# Altium footprint library Flexiwatt27.PcbLib: 1 footprints
Each footprint in its own frame and in the unit in brackets; x right, y up, seen from the top. Pads: shape width x height; smd on the part's side, far side on the other; paste and mask are expansions set on the pad; w line width, h text height; cw(c..) or ccw(c..) is an arc to the next point about the centre after c.
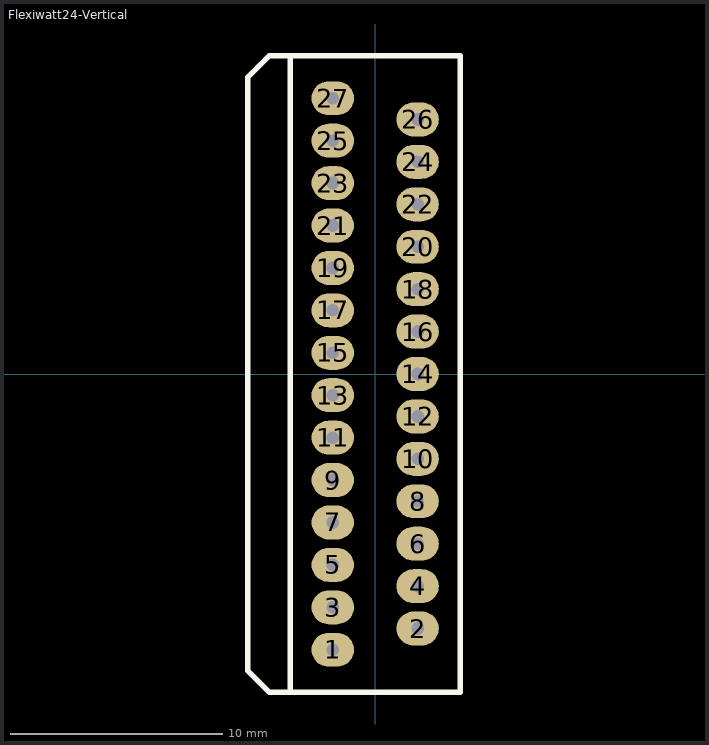
[diagram p0: the footprint, top view; thin cyan lines are the x and y axes]

## Flexiwatt24-Vertical [mm]
pads (27):
  oval 2x1.6 hole 0.6: 1(-2,-13) 2(2,-12) 3(-2,-11) 4(2,-10) 5(-2,-9) 6(2,-8) 7(-2,-7) 8(2,-6) 9(-2,-5) 10(2,-4) 11(-2,-3) 12(2,-2) 13(-2,-1) 14(2,0) 15(-2,1) 16(2,2) 17(-2,3) 18(2,4) 19(-2,5) 20(2,6) 21(-2,7) 22(2,8) 23(-2,9) 24(2,10) 25(-2,11) 26(2,12) 27(-2,13)
Top Overlay:
  lines w0.254: -4,15 -4,-15 ; -4,-15 -5,-15 -6,-14 -6,14 -5,15 4,15 4,-15 -4,-15